# Altium schematic symbol library 最小系统板K60P144-V4.0.SCHLIB: 16 symbols
Pins are listed as number, name and electrical type; pins without a type are passive.

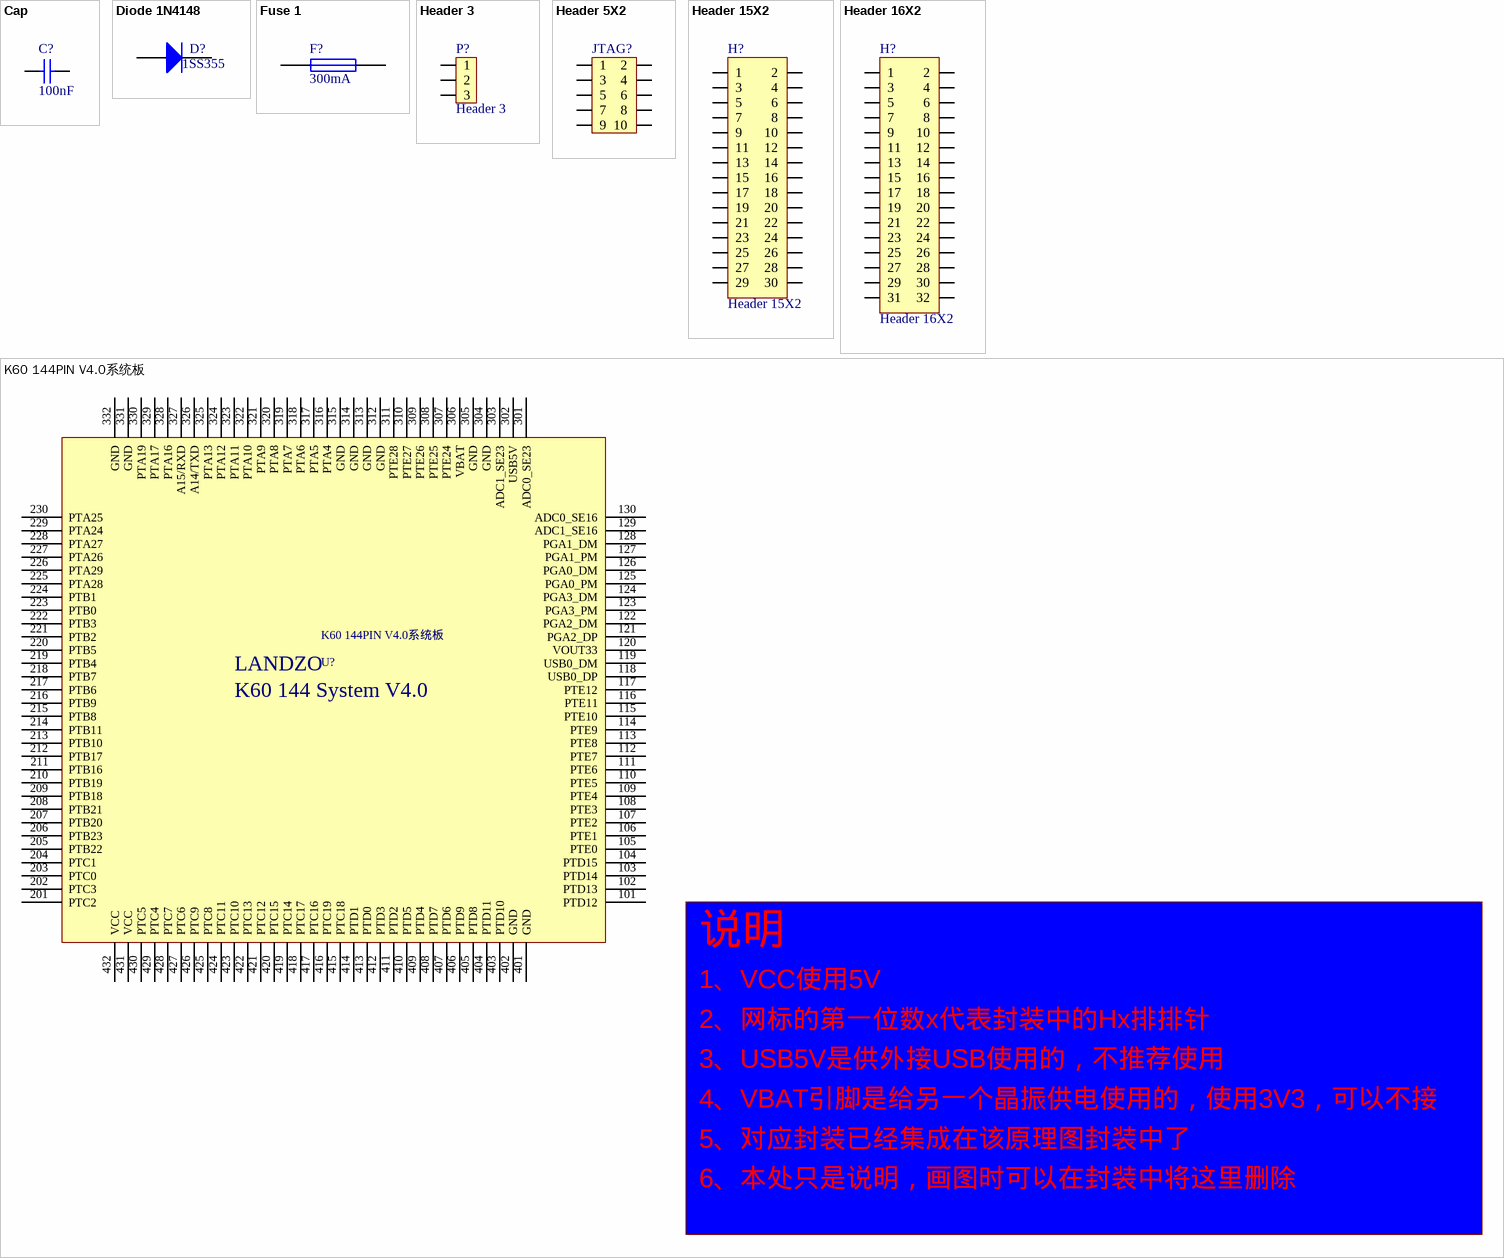
[diagram p0: symbols Cap to K60 144PIN V4.0系统板]

## Cap
designator C?, comment 100nF
Capacitor
footprint 0603(1608)
pins: 1, 2

## Diode 1N4148
designator D?, comment 1SS355
High Conductance Fast Diode; LatestRevisionDate: 17-Jul-2002; LatestRevisionNote: Re-released for DXP Platform.; DatasheetDocument: 1997; PackageReference: DO-35; Publisher: Altium Limited; Code_JEDEC: DO-204-AH; ComponentLink1Description: Manufacturer Link; ComponentLink2Description: Datasheet; ComponentLink2URL: http://www.fairchildsemi.com/ds/1N%2F1N4148.pdf
footprint umd2-1(0603)
simulation model 1N4148 (DIODE)
pins: 1 A, 2 K

## Fuse 1
designator F?, comment 300mA
Fuse; Published: 8-Jun-2000; LatestRevisionDate: 17-Jul-2002; LatestRevisionNote: Re-released for DXP Platform.; PackageReference: PIN-W2/E2.8; Publisher: Altium Limited
footprint 0805(2012)
simulation model FUSE (Spice Subcircuit)
pins: 1, 2

## Header 3
designator P?
Header, 3-Pin
footprint XH2.54_3P
pins: 1, 2, 3

## Header 5X2
designator JTAG?  (value not drawn)
Header, 5-Pin, Dual row
footprint IDC5X2
pins: 1, 2, 3, 4, 5, 6, 7, 8, 9, 10

## Header 15X2
designator H?
footprint IDC30-1
pins: 1, 2, 3, 4, 5, 6, 7, 8, 9, 10, 11, 12, 13, 14, 15, 16, 17, 18, 19, 20, 21, 22, 23, 24, 25, 26, 27, 28, 29, 30

## Header 16X2
designator H?
footprint IDC32-1
pins: 1, 2, 3, 4, 5, 6, 7, 8, 9, 10, 11, 12, 13, 14, 15, 16, 17, 18, 19, 20, 21, 22, 23, 24, 25, 26, 27, 28, 29, 30, 31, 32

## K60 144PIN V4.0系统板
designator K60 144PIN V4.0系统板, comment U?
pins: 101 PTD12, 102 PTD13, 103 PTD14, 104 PTD15, 105 PTE0, 106 PTE1, 107 PTE2, 108 PTE3, 109 PTE4, 110 PTE5, 111 PTE6, 112 PTE7, 113 PTE8, 114 PTE9, 115 PTE10, 116 PTE11, 117 PTE12, 118 USB0_DP, 119 USB0_DM, 120 VOUT33, 121 PGA2_DP, 122 PGA2_DM, 123 PGA3_PM, 124 PGA3_DM, 125 PGA0_PM, 126 PGA0_DM, 127 PGA1_PM, 128 PGA1_DM, 129 ADC1_SE16, 130 ADC0_SE16, 201 PTC2, 202 PTC3, 203 PTC0, 204 PTC1, 205 PTB22, 206 PTB23, 207 PTB20, 208 PTB21, 209 PTB18, 210 PTB19, 211 PTB16, 212 PTB17, 213 PTB10, 214 PTB11, 215 PTB8, 216 PTB9, 217 PTB6, 218 PTB7, 219 PTB4, 220 PTB5, 221 PTB2, 222 PTB3, 223 PTB0, 224 PTB1, 225 PTA28, 226 PTA29, 227 PTA26, 228 PTA27, 229 PTA24, 230 PTA25, 301 ADC0_SE23, 302 USB5V, 303 ADC1_SE23, 304 GND, 305 GND, 306 VBAT, 307 PTE24, 308 PTE25, 309 PTE26, 310 PTE27, 311 PTE28, 312 GND, 313 GND, 314 GND, 315 GND, 316 PTA4, 317 PTA5, 318 PTA6, 319 PTA7, 320 PTA8, 321 PTA9, 322 PTA10, 323 PTA11, 324 PTA12, 325 PTA13, 326 A14/TXD, 327 A15/RXD, 328 PTA16, 329 PTA17, 330 PTA19, 331 GND, 332 GND, 401 GND, 402 GND, 403 PTD10, 404 PTD11, 405 PTD8, 406 PTD9, 407 PTD6, 408 PTD7, 409 PTD4, 410 PTD5, 411 PTD2, 412 PTD3, 413 PTD0, 414 PTD1, 415 PTC18, 416 PTC19, 417 PTC16, 418 PTC17, 419 PTC14, 420 PTC15, 421 PTC12, 422 PTC13, 423 PTC10, 424 PTC11, 425 PTC8, 426 PTC9, 427 PTC6, 428 PTC7, 429 PTC4, 430 PTC5, 431 VCC, 432 VCC
text: LANDZO; K60 144 System V4.0; 说明; 1、VCC使用5V; 2、网标的第一位数x代表封装中的Hx排排针; 3、USB5V是供外接USB使用的，不推荐使用; 4、VBAT引脚是给另一个晶振供电使用的，使用3V3，可以不接; 5、对应封装已经集成在该原理图封装中了; 6、本处只是说明，画图时可以在封装中将这里删除

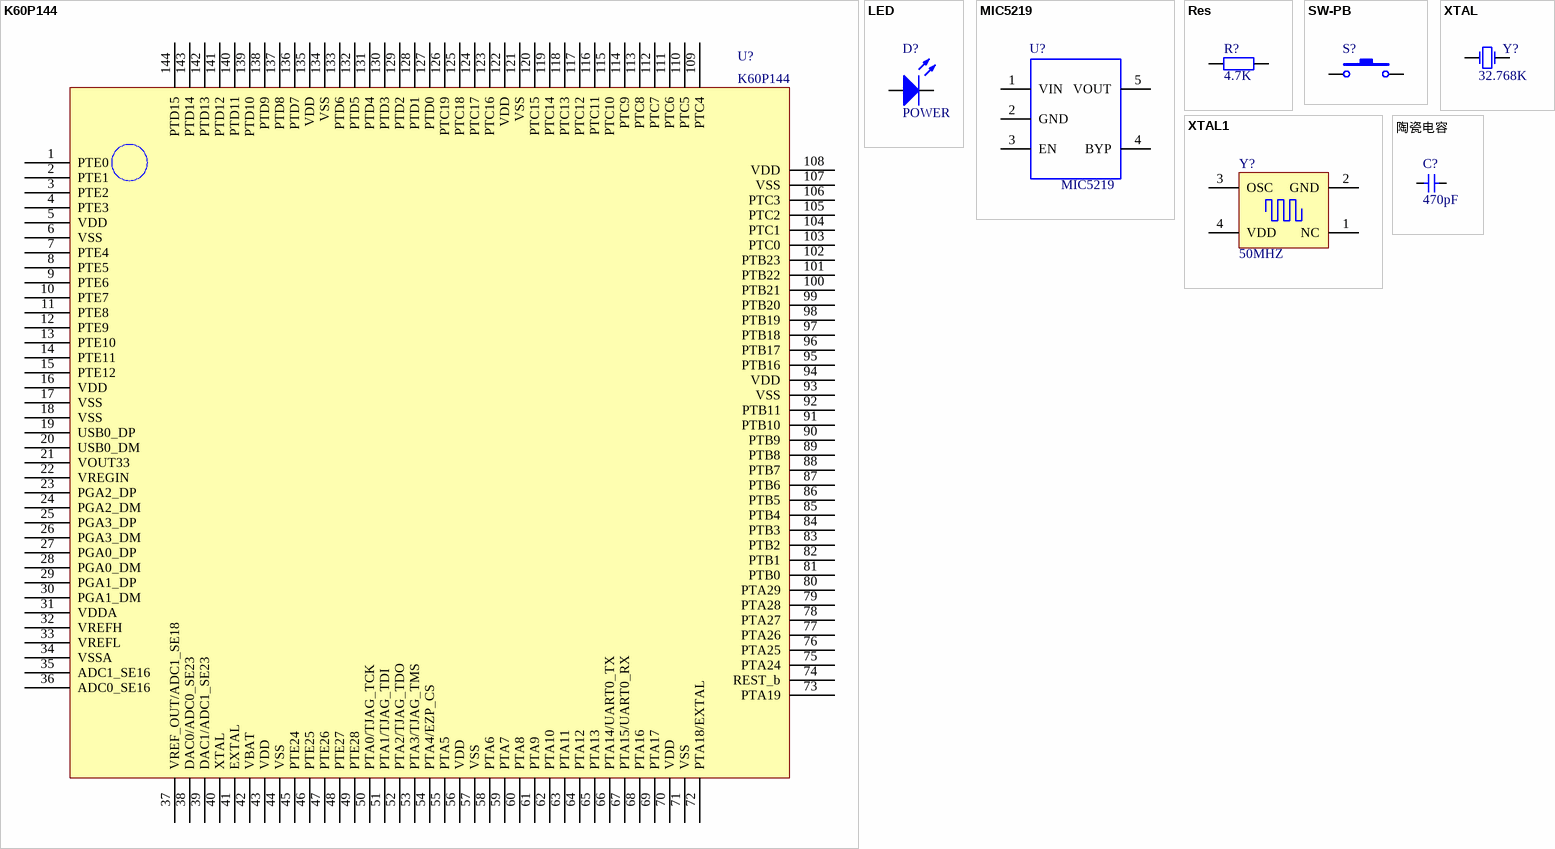
[diagram p1: symbols K60P144 to 陶瓷电容]

## K60P144
designator U?
footprint LQFP-144
pins: 1 PTE0, 2 PTE1, 3 PTE2, 4 PTE3, 5 VDD, 6 VSS, 7 PTE4, 8 PTE5, 9 PTE6, 10 PTE7, 11 PTE8, 12 PTE9, 13 PTE10, 14 PTE11, 15 PTE12, 16 VDD, 17 VSS, 18 VSS, 19 USB0_DP, 20 USB0_DM, 21 VOUT33, 22 VREGIN, 23 PGA2_DP, 24 PGA2_DM, 25 PGA3_DP, 26 PGA3_DM, 27 PGA0_DP, 28 PGA0_DM, 29 PGA1_DP, 30 PGA1_DM, 31 VDDA, 32 VREFH, 33 VREFL, 34 VSSA, 35 ADC1_SE16, 36 ADC0_SE16, 37 VREF_OUT/ADC1_SE18, 38 DAC0/ADC0_SE23, 39 DAC1/ADC1_SE23, 40 XTAL, 41 EXTAL, 42 VBAT, 43 VDD, 44 VSS, 45 PTE24, 46 PTE25, 47 PTE26, 48 PTE27, 49 PTE28, 50 PTA0/TJAG_TCK, 51 PTA1/TJAG_TDI, 52 PTA2/TJAG_TDO, 53 PTA3/TJAG_TMS, 54 PTA4/EZP_CS, 55 PTA5, 56 VDD, 57 VSS, 58 PTA6, 59 PTA7, 60 PTA8, 61 PTA9, 62 PTA10, 63 PTA11, 64 PTA12, 65 PTA13, 66 PTA14/UART0_TX, 67 PTA15/UART0_RX, 68 PTA16, 69 PTA17, 70 VDD, 71 VSS, 72 PTA18/EXTAL, 73 PTA19, 74 REST_b, 75 PTA24, 76 PTA25, 77 PTA26, 78 PTA27, 79 PTA28, 80 PTA29, 81 PTB0, 82 PTB1, 83 PTB2, 84 PTB3, 85 PTB4, 86 PTB5, 87 PTB6, 88 PTB7, 89 PTB8, 90 PTB9, 91 PTB10, 92 PTB11, 93 VSS, 94 VDD, 95 PTB16, 96 PTB17, 97 PTB18, 98 PTB19, 99 PTB20, 100 PTB21, 101 PTB22, 102 PTB23, 103 PTC0, 104 PTC1, 105 PTC2, 106 PTC3, 107 VSS, 108 VDD, 109 PTC4, 110 PTC5, 111 PTC6, 112 PTC7, 113 PTC8, 114 PTC9, 115 PTC10, 116 PTC11, 117 PTC12, 118 PTC13, 119 PTC14, 120 PTC15, 121 VSS, 122 VDD, 123 PTC16, 124 PTC17, 125 PTC18, 126 PTC19, 127 PTD0, 128 PTD1, 129 PTD2, 130 PTD3, 131 PTD4, 132 PTD5, 133 PTD6, 134 VSS, 135 VDD, 136 PTD7, 137 PTD8, 138 PTD9, 139 PTD10, 140 PTD11, 141 PTD12, 142 PTD13, 143 PTD14, 144 PTD15

## LED
designator D?, comment POWER
Typical INFRARED GaAs LED
footprint 0603LED
pins: 1, 2

## MIC5219
designator U?
LDO
footprint SOT-23-5 (SOT-23/SC-74A; 5 Leads; Body 3.1 x 3 mm, inc. leads (LxW max))
pins: 1 VIN, 2 GND, 3 EN, 4 BYP, 5 VOUT

## Res
designator R?, comment 4.7K
Resistor
footprint 0603(1608)
pins: 1, 2

## SW-PB
designator S?
Switch
footprint SMT_Button
pins: 1, 2

## XTAL
designator Y?, comment 32.768K
Crystal Oscillator
footprint XTAL8-3215
pins: 1 OSC1, 2 OSC2

## XTAL1
designator Y?, comment 50MHZ
footprint XTAL7_3225
pins: 1 NC, 2 GND, 3 OSC, 4 VDD

## 陶瓷电容
designator C?, comment 470pF
CAP
footprint 0805
footprint 0805(2012)
footprint 0402
pins: 1, 2